# EAGLE library part BQ25570 (library voltage_regulators)
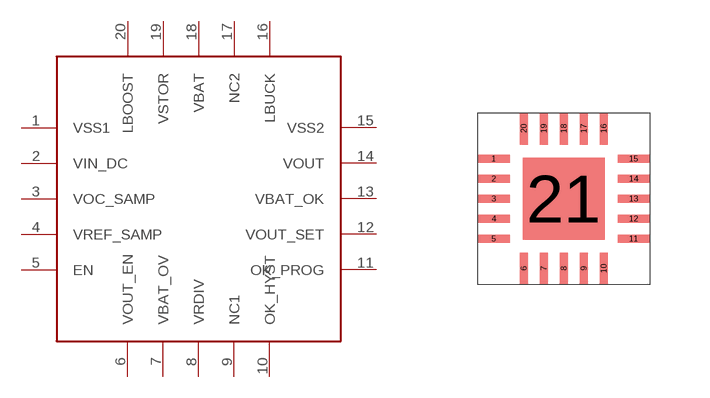
[diagram p0: symbol with the pads of BQ25570; footprint BQ25570]

Designator prefix -

## BQ25570  [BQ25570]
1  VSS1
2  VIN_DC
3  VOC_SAMP
4  VREF_SAMP
5  EN
6  VOUT_EN
7  VBAT_OV
8  VRDIV
9  NC1
10  OK_HYST
11  OK_PROG
12  VOUT_SET
13  VBAT_OK
14  VOUT
15  VSS2
16  LBUCK
17  NC2
18  VBAT
19  VSTOR
20  LBOOST

## Footprint BQ25570 (pad centres in mm)
smd 0.8 x 0.2: 1 0.4,3.15; 2 0.4,2.65; 3 0.4,2.15; 4 0.4,1.65; 5 0.4,1.15; 11 3.9,1.15; 12 3.9,1.65; 13 3.9,2.15; 14 3.9,2.65; 15 3.9,3.15
smd 0.2 x 0.8: 6 1.15,0.4; 7 1.65,0.4; 8 2.15,0.4; 9 2.65,0.4; 10 3.15,0.4; 16 3.15,3.9; 17 2.65,3.9; 18 2.15,3.9; 19 1.65,3.9; 20 1.15,3.9
smd 2.05 x 2.05: 21 2.15,2.15